# EAGLE library part ATSAMD21J* (library IC_Embedded)
32-bit ARM-Based Microcontrollers Datasheet <http://ww1.microchip.com/downloads/en/devicedoc/40001884a.pdf> Note:For this part User needs to add thermal via in thermal pad in VQFN package while designing a board.
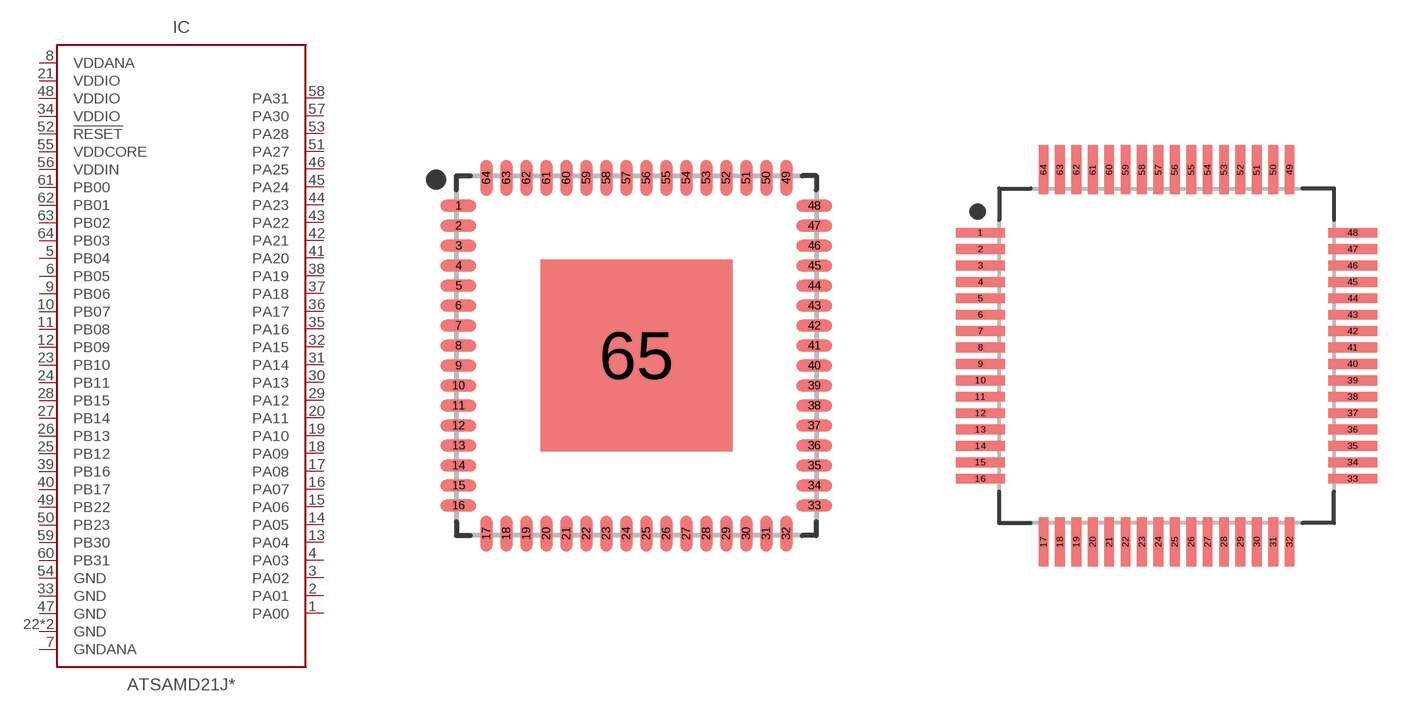
[diagram p33: symbol with the pads of QFN50P900X900X100-65T480; footprints QFN50P900X900X100-65T480, QFP50P1200X1200X160-64N]

Designator prefix IC

## ATSAMD21J_VQFN (CATEGORY: IC_Embedded; CORE: Cortex-M0+ CPU; DESCRIPTION: 32-bit ARM-Based Microcontroller; MANUFACTURER: Microchip Technology; MPN: ATSAMD21J; OPERATING_TEMP: Variable; PACKAGE: VQFN-64; PART_STATUS: Active; ROHS_COMPLIANT: COMPLIANT; SERIES: SAM D21J; SUB-CATEGORY: Microcontroller; TYPE: 32 bit Microcontroller; VALUE: ATSAMD21J)  [QFN50P900X900X100-65T480]
1  PA00  out
2  PA01  out
3  PA02
4  PA03
5  PB04
6  PB05
7  GNDANA  pwr
8  VDDANA  pwr
9  PB06
10  PB07
11  PB08
12  PB09
13  PA04
14  PA05
15  PA06
16  PA07
17  PA08
18  PA09
19  PA10
20  PA11
21  VDDIO  pwr
22  GND  pwr
23  PB10
24  PB11
25  PB12
26  PB13
27  PB14
28  PB15
29  PA12
30  PA13
31  PA14  out
32  PA15  out
33  GND  pwr
34  VDDIO  pwr
35  PA16
36  PA17
37  PA18
38  PA19
39  PB16
40  PB17
41  PA20
42  PA21
43  PA22
44  PA23
45  PA24
46  PA25
47  GND  pwr
48  VDDIO  pwr
49  PB22
50  PB23
51  PA27
52  !RESET  in
53  PA28
54  GND  pwr
55  VDDCORE  pwr
56  VDDIN  pwr
57  PA30
58  PA31
59  PB30
60  PB31
61  PB00
62  PB01
63  PB02
64  PB03
65  GND  pwr

## ATSAMD21J_TQFP (CATEGORY: IC_Embedded; CORE: ARM Cortex M0+; DESCRIPTION: 32-bit ARM-Based Microcontroller; MANUFACTURER: Microchip Technology; MPN: ATSAMD21J; OPERATING_TEMP: variable; PACKAGE: TQFP-64; PART_STATUS: Active; ROHS_COMPLIANT: COMPLIANT; SERIES: SAM D21J; SUB-CATEGORY: Microcontroller; TYPE: 32 bit Microcontroller; VALUE: ATSAMD21J)  [QFP50P1200X1200X160-64N]
1  PA00  out
2  PA01  out
3  PA02
4  PA03
5  PB04
6  PB05
7  GNDANA  pwr
8  VDDANA  pwr
9  PB06
10  PB07
11  PB08
12  PB09
13  PA04
14  PA05
15  PA06
16  PA07
17  PA08
18  PA09
19  PA10
20  PA11
21  VDDIO  pwr
22  GND  pwr
23  PB10
24  PB11
25  PB12
26  PB13
27  PB14
28  PB15
29  PA12
30  PA13
31  PA14  out
32  PA15  out
33  GND  pwr
34  VDDIO  pwr
35  PA16
36  PA17
37  PA18
38  PA19
39  PB16
40  PB17
41  PA20
42  PA21
43  PA22
44  PA23
45  PA24
46  PA25
47  GND  pwr
48  VDDIO  pwr
49  PB22
50  PB23
51  PA27
52  !RESET  in
53  PA28
54  GND  pwr
55  VDDCORE  pwr
56  VDDIN  pwr
57  PA30
58  PA31
59  PB30
60  PB31
61  PB00
62  PB01
63  PB02
64  PB03

## Footprint QFN50P900X900X100-65T480 (pad centres in mm)
64-QFN, 0.50 mm pitch, 9.00 X 9.00 X 1.00 mm body, 4.80 X 4.80 mm thermal pad 64-pin QFN package with 0.50 mm pitch with body size 9.00 X 9.00 X 1.00 mm and thermal pad size 4.80 X 4.80 mm
smd 0.9 x 0.3: 1 -4.45,3.75; 2 -4.45,3.25; 3 -4.45,2.75; 4 -4.45,2.25; 5 -4.45,1.75; 6 -4.45,1.25; 7 -4.45,0.75; 8 -4.45,0.25; 9 -4.45,-0.25; 10 -4.45,-0.75; 11 -4.45,-1.25; 12 -4.45,-1.75; 13 -4.45,-2.25; 14 -4.45,-2.75; 15 -4.45,-3.25; 16 -4.45,-3.75; 33 4.45,-3.75; 34 4.45,-3.25; 35 4.45,-2.75; 36 4.45,-2.25; 37 4.45,-1.75; 38 4.45,-1.25; 39 4.45,-0.75; 40 4.45,-0.25; 41 4.45,0.25; 42 4.45,0.75; 43 4.45,1.25; 44 4.45,1.75; 45 4.45,2.25; 46 4.45,2.75; 47 4.45,3.25; 48 4.45,3.75
smd 0.3 x 0.9: 17 -3.75,-4.45; 18 -3.25,-4.45; 19 -2.75,-4.45; 20 -2.25,-4.45; 21 -1.75,-4.45; 22 -1.25,-4.45; 23 -0.75,-4.45; 24 -0.25,-4.45; 25 0.25,-4.45; 26 0.75,-4.45; 27 1.25,-4.45; 28 1.75,-4.45; 29 2.25,-4.45; 30 2.75,-4.45; 31 3.25,-4.45; 32 3.75,-4.45; 49 3.75,4.45; 50 3.25,4.45; 51 2.75,4.45; 52 2.25,4.45; 53 1.75,4.45; 54 1.25,4.45; 55 0.75,4.45; 56 0.25,4.45; 57 -0.25,4.45; 58 -0.75,4.45; 59 -1.25,4.45; 60 -1.75,4.45; 61 -2.25,4.45; 62 -2.75,4.45; 63 -3.25,4.45; 64 -3.75,4.45
smd 4.8 x 4.8: 65 0,0

## Footprint QFP50P1200X1200X160-64N (pad centres in mm)
64-QFP, 0.50 mm pitch, 12.00 mm span, 10.00 X 10.00 X 1.60 mm body 64-pin QFP package with 0.50 mm pitch, 12.00 mm lead span1 X 12.00 mm lead span2 with body size 10.00 X 10.00 X 1.60 mm
smd 1.5 x 0.3: 1 -5.672,3.75; 2 -5.672,3.25; 3 -5.672,2.75; 4 -5.672,2.25; 5 -5.672,1.75; 6 -5.672,1.25; 7 -5.672,0.75; 8 -5.672,0.25; 9 -5.672,-0.25; 10 -5.672,-0.75; 11 -5.672,-1.25; 12 -5.672,-1.75; 13 -5.672,-2.25; 14 -5.672,-2.75; 15 -5.672,-3.25; 16 -5.672,-3.75; 33 5.672,-3.75; 34 5.672,-3.25; 35 5.672,-2.75; 36 5.672,-2.25; 37 5.672,-1.75; 38 5.672,-1.25; 39 5.672,-0.75; 40 5.672,-0.25; 41 5.672,0.25; 42 5.672,0.75; 43 5.672,1.25; 44 5.672,1.75; 45 5.672,2.25; 46 5.672,2.75; 47 5.672,3.25; 48 5.672,3.75
smd 0.3 x 1.5: 17 -3.75,-5.672; 18 -3.25,-5.672; 19 -2.75,-5.672; 20 -2.25,-5.672; 21 -1.75,-5.672; 22 -1.25,-5.672; 23 -0.75,-5.672; 24 -0.25,-5.672; 25 0.25,-5.672; 26 0.75,-5.672; 27 1.25,-5.672; 28 1.75,-5.672; 29 2.25,-5.672; 30 2.75,-5.672; 31 3.25,-5.672; 32 3.75,-5.672; 49 3.75,5.672; 50 3.25,5.672; 51 2.75,5.672; 52 2.25,5.672; 53 1.75,5.672; 54 1.25,5.672; 55 0.75,5.672; 56 0.25,5.672; 57 -0.25,5.672; 58 -0.75,5.672; 59 -1.25,5.672; 60 -1.75,5.672; 61 -2.25,5.672; 62 -2.75,5.672; 63 -3.25,5.672; 64 -3.75,5.672